# EAGLE library part MAX6350CSA (library DashAndCAN library)
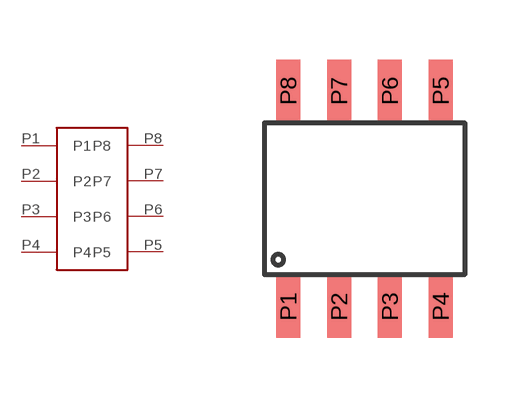
[diagram p1: symbol with the pads of 8-SOIC; footprint 8-SOIC]

Designator prefix -

## MAX6350CSA  [8-SOIC]
P1  P1
P2  P2
P3  P3
P4  P4
P5  P5
P6  P6
P7  P7
P8  P8

## Footprint 8-SOIC (pad centres in mm)
smd 0.6 x 1.55: P1 -1.905,-2.7; P2 -0.635,-2.7; P3 0.635,-2.7; P4 1.905,-2.7; P5 1.905,2.7; P6 0.635,2.7; P7 -0.635,2.7; P8 -1.905,2.7